# EAGLE library part IN-8 (library bodger)
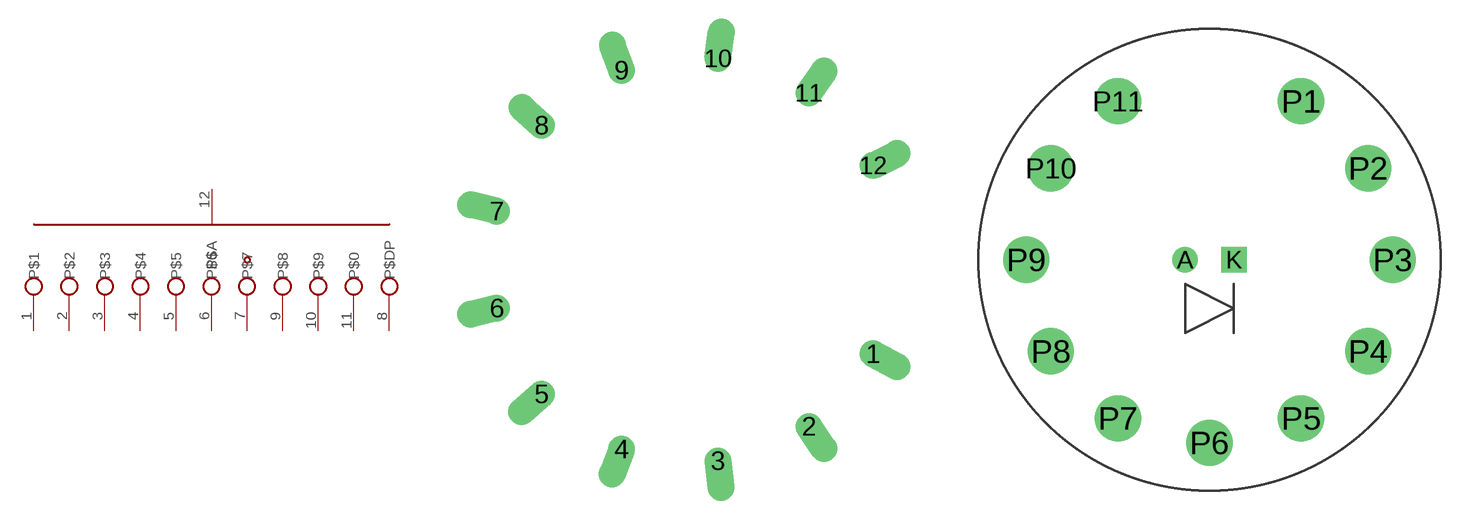
[diagram p13: symbol with the pads of NIXIE; footprints NIXIE, IN8-DPINS-LED]

Designator prefix -

## IN-8  [NIXIE]
1  P$1
2  P$2
3  P$3
4  P$4
5  P$5
6  P$6
7  P$7
8  P$DP
9  P$8
10  P$9
11  P$0
12  P$A

## IN-8DPINS-LED  [IN8-DPINS-LED]

## Footprint NIXIE (pad centres in mm)
nixie tube
drill 0.749 offset: 1 8.412,-4.415; 2 5.397,-7.818; 3 1.146,-9.431; 4 -3.368,-8.882; 5 -7.112,-6.299; 6 -9.223,-2.273; 7 -9.223,2.273; 8 -7.112,6.299; 9 -3.368,8.882; 10 1.146,9.431; 11 5.397,7.818; 12 8.412,4.415

## Footprint IN8-DPINS-LED (pad centres in mm)
IN-8 socket using D-shell pins with LED
drill 0.8: A -1.27,0
drill 0.8 square: K 1.27,0
drill 1.6: P1 4.75,8.227; P2 8.227,4.75; P3 9.5,0; P4 8.227,-4.75; P5 4.75,-8.227; P6 0,-9.5; P7 -4.75,-8.227; P8 -8.227,-4.75; P9 -9.5,0; P10 -8.227,4.75; P11 -4.75,8.227